# Altium footprint library Hzhiwei.PcbLib: 63 footprints (part 1 of 4)
Each footprint in its own frame and in the unit in brackets; x right, y up, seen from the top. Pads: shape width x height; smd on the part's side, far side on the other; paste and mask are expansions set on the pad; w line width, h text height; cw(c..) or ccw(c..) is an arc to the next point about the centre after c.
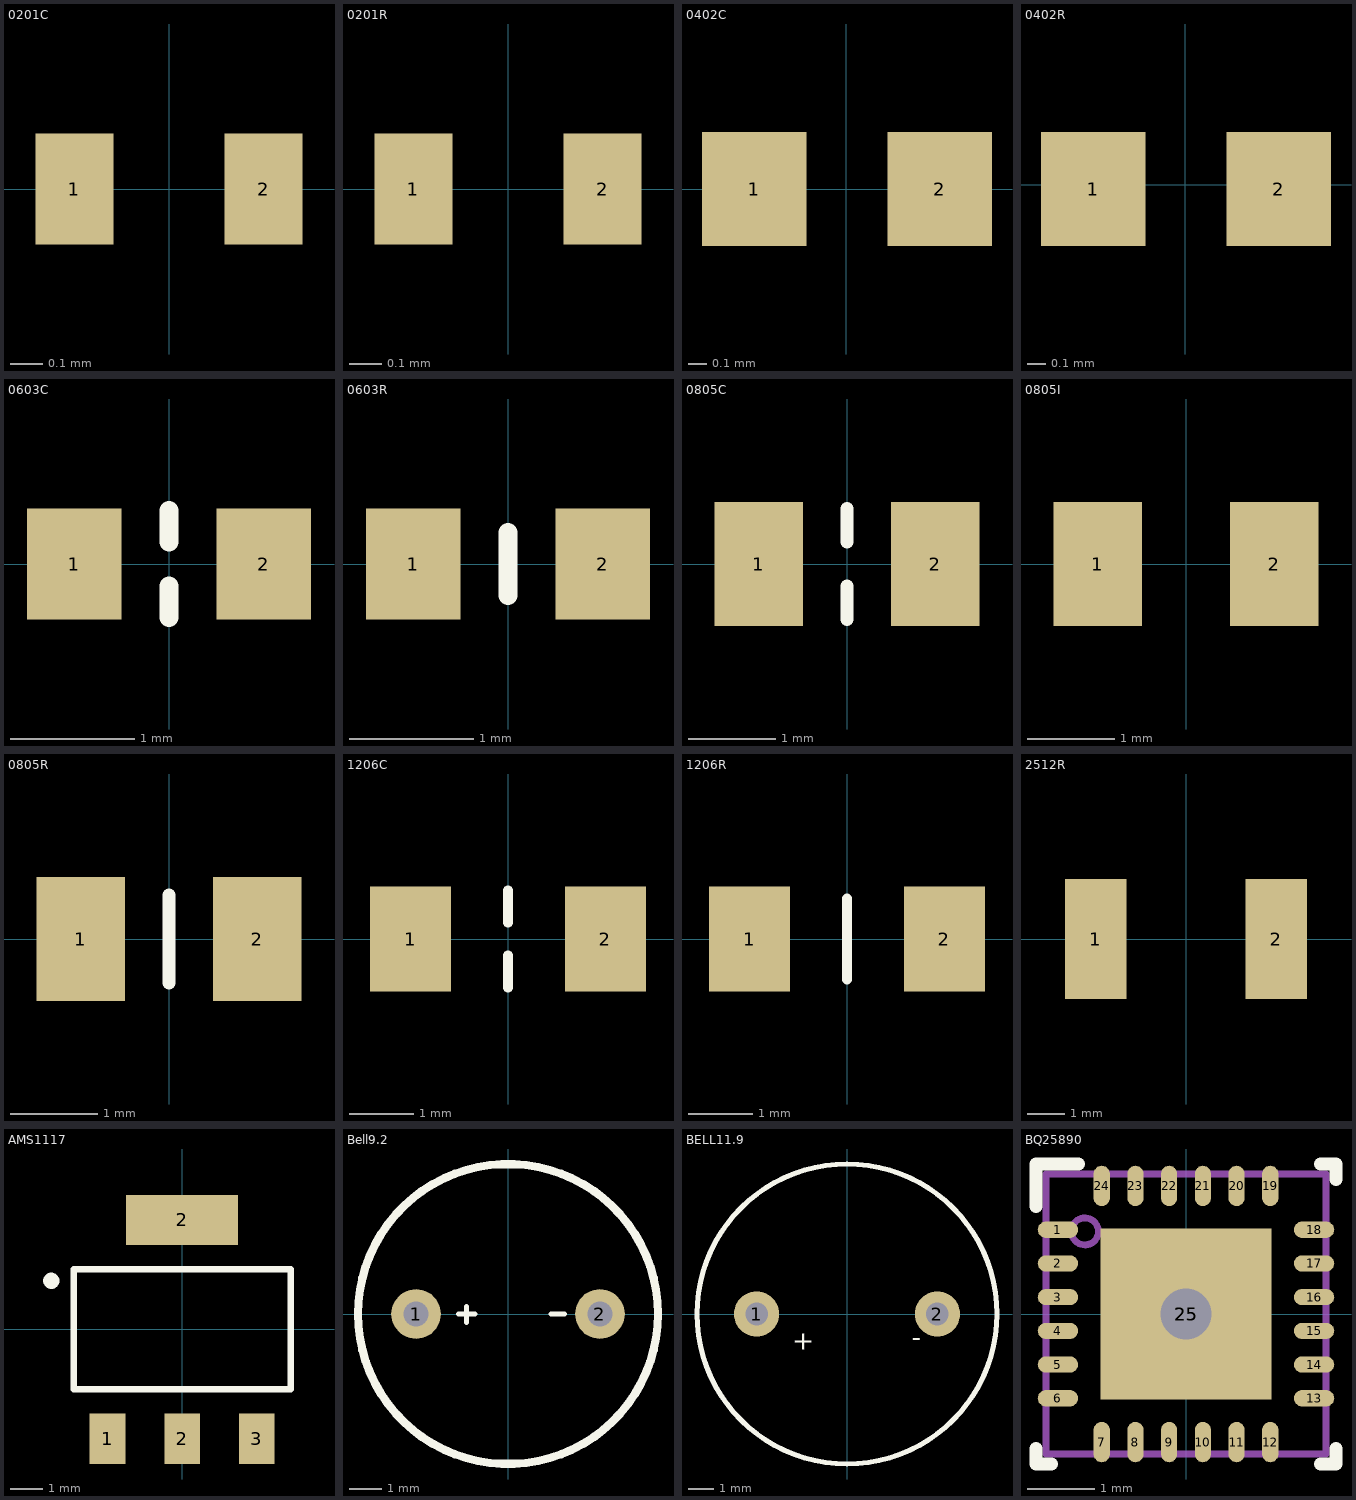
[diagram p0: the footprints below, top view; thin cyan lines are the x and y axes]

## 0201C [mil]
pads (2):
  rect 9.5x13.5 smd: 1(-11.5,0) 2(11.5,0)
3D body "CAPC0603(0201).STEP": height 0, standoff -11.81, extent -12,-6 11.62,5.81

## 0201R [mil]
pads (2):
  rect 9.5x13.5 smd: 1(-11.5,0) 2(11.5,0)
3D body "0201_R.step": height 9.3, standoff 0, extent -12,-6 12,6

## 0402C [mil]
pads (2):
  rect 22x24 smd: 1(-19.39,0) 2(19.61,0)
3D body "CAPC1005(0402).STEP": height 19.68, standoff 0, extent -19.68,-9.84 19.69,9.85

## 0402R [mil]
pads (2):
  rect 22x24 smd: 1(-19.39,-0.85) 2(19.61,-0.85)
3D body "0402_R.step": height 15.09, standoff 0.79, extent -19.39,-10.85 19.61,9.15

## 0603C [mil]
pads (2):
  rect 30x35 smd: 1(-30,0) 2(30,0)
Top Overlay:
  lines w6: 0,-17 0,-7 ; 0,7 0,17
3D body "CAPC1608(0603).STEP": height 23.62, standoff 0, extent -31.49,-15.74 31.5,15.75

## 0603R [mil]
pads (2):
  rect 30x35 smd: 1(-30,0) 2(30,0)
Top Overlay:
  lines w6: 0,-10 0,10
3D body "0603_R.step": height 20.79, standoff 0.79, extent -30.95,-15.77 32.05,16.23

## 0805C [mil]
pads (2):
  rect 40x56 smd: 1(-40,0) 2(40,0)
Top Overlay:
  lines w6: 0,-25 0,-10 ; 0,10 0,25
3D body "CAPC2012(0805).STEP": height 37.4, standoff 0, extent -39.37,-23.62 39.37,23.63

## 0805I [mil] "0805磁珠"
pads (2):
  rect 40x56 smd: 1(-40,0) 2(40,0)
3D body: height 31.5, standoff 0, extent -42,-25 43,26

## 0805R [mil]
pads (2):
  rect 40x56 smd: 1(-40,0) 2(40,0)
Top Overlay:
  lines w6: 0,-20 0,20
3D body "0805_R.step": height 20.79, standoff 0.79, extent -39.11,-24.59 39.89,24.41

## 1206C [mil]
pads (2):
  rect 50x65 smd: 1(-60,0) 2(60,0)
Top Overlay:
  lines w6: 0,-30 0,-10 ; 0,10 0,30
3D body "CAPC3216(1206).STEP": height 37.4, standoff 0, extent -61.99,-31.49 64,31.5

## 1206R [mil]
pads (2):
  rect 50x65 smd: 1(-60,0) 2(60,0)
Top Overlay:
  lines w6: 0,-25 0,25
3D body "1206_R.step": height 24.79, standoff 0.79, extent -61.26,-30.25 63.74,30.75

## 2512R [mm]
pads (2):
  rect 1.65x3.2 smd: 1(-2.415,0) 2(2.415,0)
3D body "2512_R.step": height 0.64, standoff 0.02, extent -3.161,-1.604 3.138,1.596

## AMS1117 [mm]
pads (4):
  rect 1.1x1.55 smd: 1(-2.3,-3.375) 2(0,-3.375) 3(2.3,-3.375)
  rect 3.45x1.55 smd: 2(0,3.375)
Top Overlay:
  circle w0.25: c-4.037,1.499 r0.125
  lines w0.2: -3.35,-1.85 3.35,-1.85 3.35,1.85 -3.35,1.85 -3.35,-1.85
3D body: height 0.8, standoff 0, extent -3.302,-2.032 3.302,2.159
3D body: height 0.3, standoff 0, extent 1.867,-3.924 2.756,-2.019
3D body: height 0.3, standoff 0, extent -0.419,-3.912 0.47,-2.007
3D body: height 0.3, standoff 0, extent -2.756,-3.924 -1.867,-2.019
3D body: height 0.3, standoff 0, extent -1.651,2.159 1.651,3.429

## Bell9.2 [mil]
pads (2):
  round 60 hole 30: 1(-111,0) 2(111,0)
Top Overlay:
  circle w10: c0,0 r181.1
  lines w6: -60,0 -40,0 ; -50,-10 -50,9 ; 52,0 68,0
3D body: height 216.54, standoff 0, extent -181.1,-181.05 181.1,181.05
3D body: height 217.32, standoff 0, extent -31.5,-31.47 31.5,31.47

## BELL11.9 [mil]
pads (2):
  round 70 hole 35: 1(-140,0) 2(140,0)
Top Overlay:
  circle w8: c0,0 r232.28
  text "-" at 100,-50 h30
  text "+" at -85,-55 h30
3D body: height 300, standoff 0, extent -27.43,-30.43 43.43,40.43
3D body: height 299.21, standoff 0, extent -229.28,-237.22 235.29,227.22

## BQ25890 [mm] "TI充电IC"
pads (26):
  oval 0.6x0.24 smd paste-0.102 mask+0.051: 1(-1.9,1.25) 2(-1.9,0.75) 3(-1.9,0.25) 4(-1.9,-0.25) 5(-1.9,-0.75) 6(-1.9,-1.25) 13(1.9,-1.25) 14(1.9,-0.75) 15(1.9,-0.25) 16(1.9,0.25) 17(1.9,0.75) 18(1.9,1.25)
  oval 0.24x0.6 smd paste-0.102 mask+0.051: 7(-1.25,-1.9) 8(-0.75,-1.9) 9(-0.25,-1.9) 10(0.25,-1.9) 11(0.75,-1.9) 12(1.25,-1.9) 19(1.25,1.9) 20(0.75,1.9) 21(0.25,1.9) 22(-0.25,1.9) 23(-0.75,1.9) 24(-1.25,1.9)
  rect 2.54x2.54 smd paste-1.337 mask+0.051: 25(0,0)
  round 1.27 hole 0.762: 25(0,0)
Top Overlay:
  lines w0.2: -2.225,-2 -2.225,-2.225 -2,-2.225 ; -2.225,1.6 -2.225,2.225 -1.6,2.225 ; 2,-2.225 2.225,-2.225 2.225,-2 ; 2,2.225 2.225,2.225 2.225,2
Mechanical 13:
  circle w0.1: c-1.5,1.225 r0.2
  lines w0.1: -2.075,-2.075 -2.075,2.075 2.075,2.075 2.075,-2.075 -2.075,-2.075
3D body: height 0.6, standoff 0, extent -2.032,-2.032 2.032,2.032